# Altium schematic symbol library inductors.SchLib: 4 symbols
Pins are listed as number, name and electrical type; pins without a type are passive.

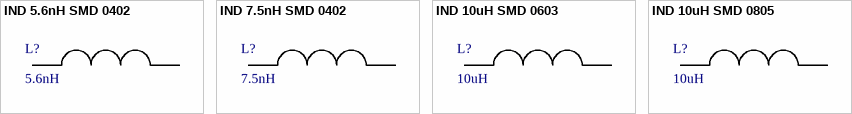
[diagram p0: symbols IND 5.6nH SMD 0402 to IND 10uH SMD 0805]

## IND 5.6nH SMD 0402
designator L?, comment 5.6nH
SMD 0402 5%; PartNumber: LQG15HS5N6S02D; Supplier: Terraelectronica; Unit Price: 1.1; WebLink: https://www.terraelectronica.ru/product/867408
footprint IND0402
pins: 1, 2

## IND 7.5nH SMD 0402
designator L?, comment 7.5nH
SMD 0402 5%; PartNumber: LQG15HS7N5J02D; Supplier: Terraelectronica; Unit Price: 1.1; WebLink: https://www.terraelectronica.ru/product/574342
footprint IND0402
pins: 1, 2

## IND 10uH SMD 0603
designator L?, comment 10uH
SMD 0603 10% 40mA; PartNumber: MLZ1608E100MTc; Supplier: Terraelectronica; Unit Price: 10.91; WebLink: https://www.terraelectronica.ru/product/1200467
footprint IND0603 (2-Leads, Body 2,0x1,3mm, IPC Medium Density)
pins: 1, 2

## IND 10uH SMD 0805
designator L?, comment 10uH
0805 SMD; PartNumber: LQM21FN100M80L; Supplier: Terraelectronica; Unit Price: 4.4; WebLink: https://www.terraelectronica.ru/product/1496283
footprint IND0805
pins: 1, 2